# Altium schematic symbol library RL1.SchLib: 87 symbols
Pins are listed as number, name and electrical type; pins without a type are passive.

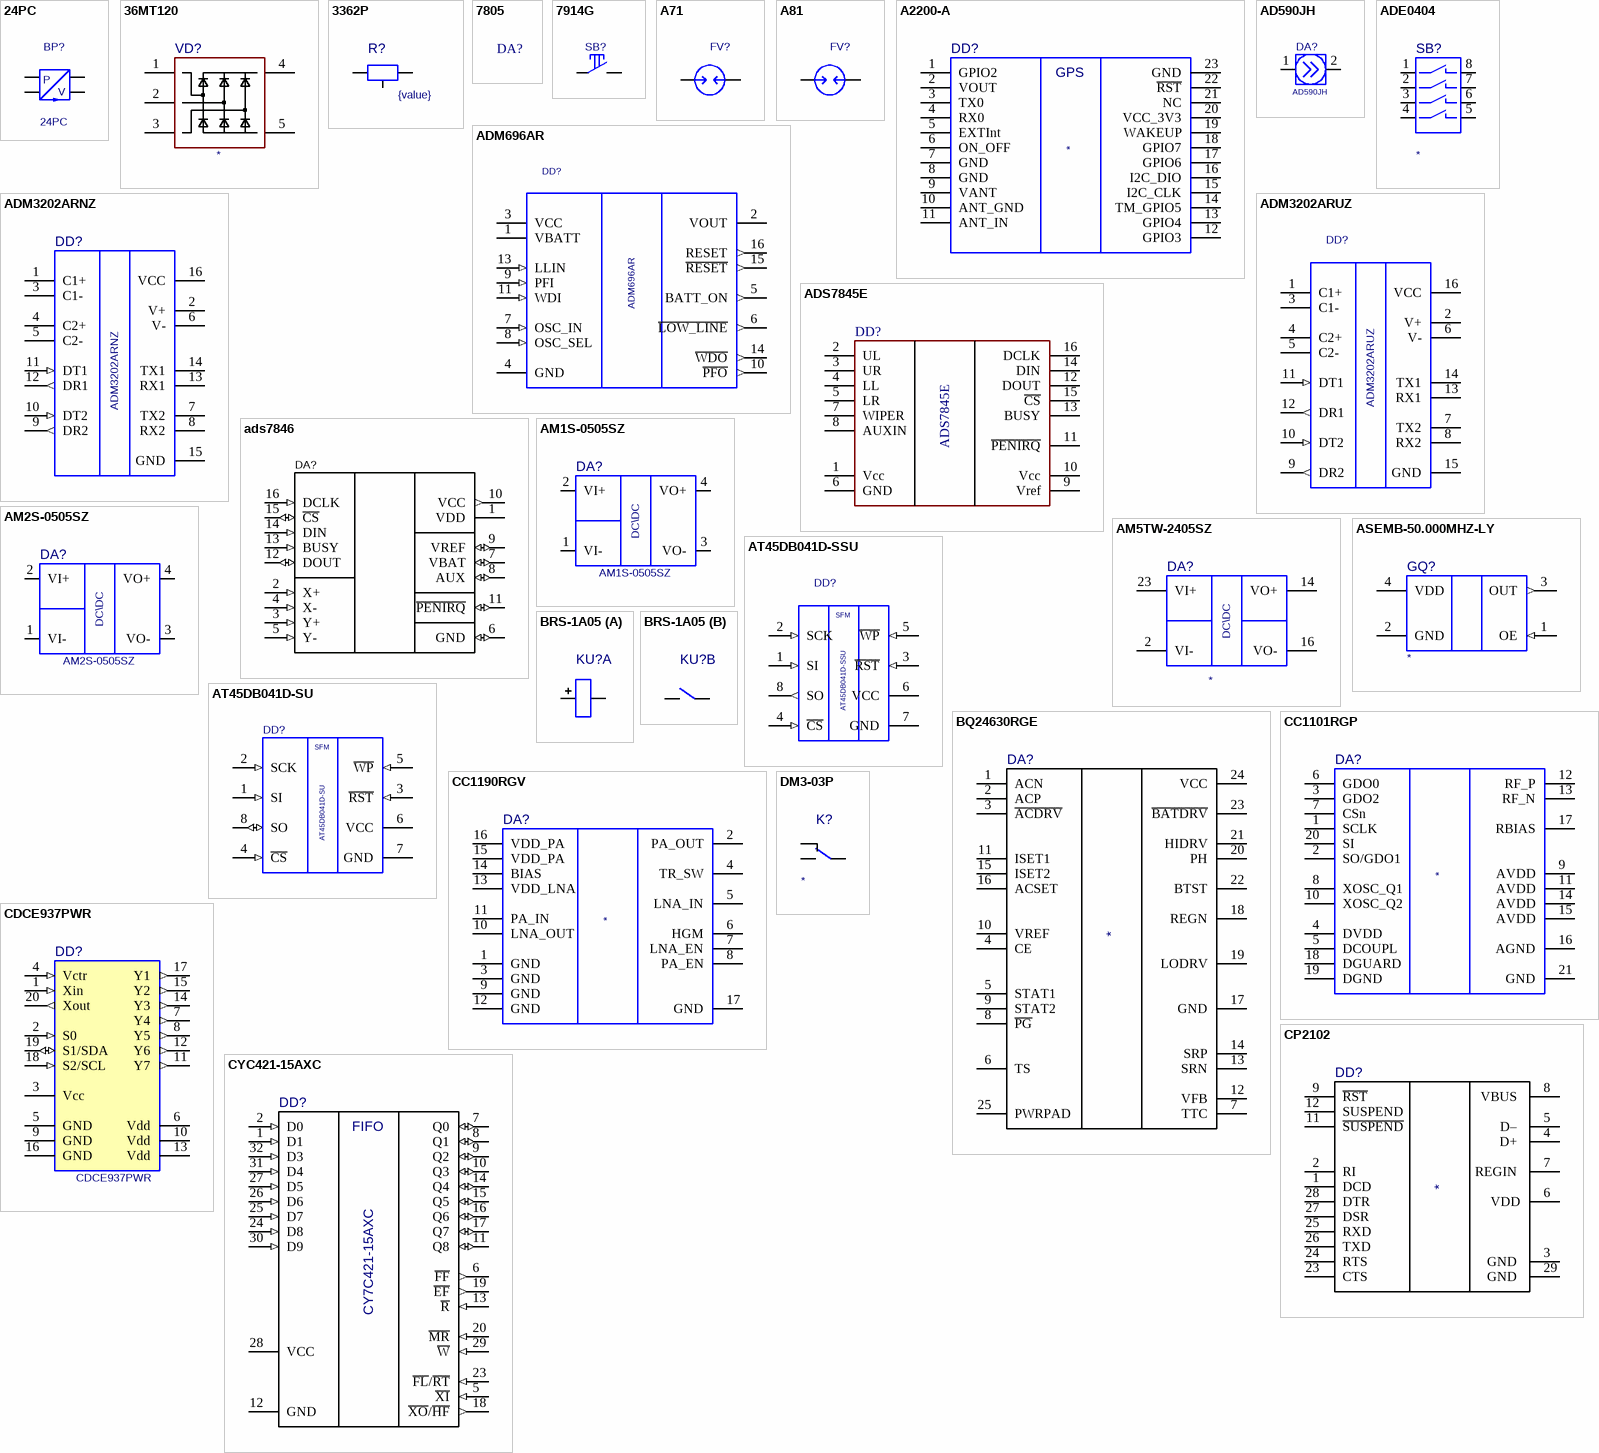
[diagram p0: symbols 24PC to DM3-03P]

## 24PC
designator BP?
Value: *
footprint 24PC
pins: 1, 2, 3, 4
text: P; V

## 36MT120
designator VD?
footprint D-63
pins: 1, 2, 3, 4, 5

## 3362P
designator R?  value {value}  (hidden comment: *)
footprint 3362P
pins: 1, 2, 3

## 7805
designator DA?  (value not drawn)
7805; Value: *
footprint TO-220AB_Primary
footprint TO-220AB_TO-200AB-R
footprint TO-220AB_TO-200AB-R1
footprint TO-220AB_TO-220AB-1
footprint TO-220AB_TO-220AB-2

## 7914G
designator SB?  (value not drawn)
7914G; Value: *
footprint 7914G
pins: 1, 2, 3 hidden, 4 hidden

## A71
designator FV?  (value not drawn)
Value: {Value}
footprint A71_+1
footprint A71_+2
footprint A71_+3
footprint A71_+4
footprint A71_+5
footprint A71_Primary
footprint A71_v
pins: 1, 2

## A81
designator FV?  (value not drawn)
Value: {Value}
footprint A81
pins: 1, 2

## A2200-A
designator DD?
footprint A2200-A
pins: 1 GPIO2, 2 VOUT, 3 TX0, 4 RX0, 5 EXTInt, 6 ON_OFF, 7 GND, 8 GND, 9 VANT, 10 ANT_GND, 11 ANT_IN, 12 GPIO3, 13 GPIO4, 14 TM_GPIO5, 15 I2C_CLK, 16 I2C_DIO, 17 GPIO6, 18 GPIO7, 19 WAKEUP, 20 VCC_3V3, 21 NC, 22 ~{RST}, 23 GND
text: GPS

## AD590JH
designator DA?
Value: *
footprint TO-52
pins: 1 +, 2 -

## ADE0404
designator SB?
footprint DIP_SWITCH4
pins: 1 S3_1, 2 S3_2, 3 S1_1, 4 S2_1, 5 S4_1, 6 S4_2, 7 S2_2, 8 S1_2

## ADM696AR
designator DD?
Value: *
footprint SO16
pins: 1 VBATT (power), 2 VOUT (power), 3 VCC (power), 4 GND (power), 5 BATT_ON (out), 6 ~{LOW_LINE} (out), 7 OSC_IN (in), 8 OSC_SEL (in), 9 PFI (in), 10 ~{PFO} (out), 11 WDI (in), 12 hidden, 13 LLIN (in), 14 ~{WDO} (out), 15 ~{RESET} (out), 16 RESET (out)

## ADM3202ARNZ
designator DD?
Value: *
footprint SOIC16
pins: 1 C1+, 2 V+, 3 C1-, 4 C2+, 5 C2-, 6 V-, 7 TX2, 8 RX2, 9 DR2 (out), 10 DT2 (in), 11 DT1 (in), 12 DR1 (out), 13 RX1, 14 TX1, 15 GND (power), 16 VCC (power)

## ADM3202ARUZ
designator DD?
Value: *
footprint TSSOP16 (JEDEC MO-153)
pins: 1 C1+, 2 V+, 3 C1-, 4 C2+, 5 C2-, 6 V-, 7 TX2, 8 RX2, 9 DR2 (out), 10 DT2 (in), 11 DT1 (in), 12 DR1 (out), 13 RX1, 14 TX1, 15 GND (power), 16 VCC (power)

## ADS7845E
designator DD?
TOUCH SCREEN CONTROLLER
footprint SSOP16 (JEDEC MO-137)
pins: 1 Vcc, 2 UL, 3 UR, 4 LL, 5 LR, 6 GND, 7 WIPER, 8 AUXIN, 9 Vref, 10 Vcc, 11 ~{PENIRQ}, 12 DOUT, 13 BUSY, 14 DIN, 15 ~{CS}, 16 DCLK

## ads7846
designator DA?  (value not drawn)
TOUCH SCREEN CONTROLLER
footprint TSSOP16 (JEDEC MO-153)
pins: 1 VDD (power), 2 X+ (in), 3 Y+ (in), 4 X- (in), 5 Y- (in), 6 GND (io), 7 VBAT (io), 8 AUX (io), 9 VREF (io), 10 VCC (out), 11 ~{PENIRQ} (io), 12 DOUT (io), 13 BUSY (in), 14 DIN (in), 15 ~{CS} (io), 16 DCLK (in)

## AM1S-0505SZ
designator DA?
Value: *
footprint DC-DC SIP4
pins: 1 VI-, 2 VI+, 3 VO- (power), 4 VO+ (power)
text: DC\DC

## AM2S-0505SZ
designator DA?
Value: *
footprint DC-DC SIP4 2W
pins: 1 VI-, 2 VI+, 3 VO- (power), 4 VO+ (power)
text: DC\DC

## AM5TW-2405SZ
designator DA?
AM5TW-2405SZ; Value: *
footprint DC-DC DIP24_AM5TW-2405SZ(Primary)
pins: 2 VI-, 14 VO+, 16 VO-, 23 VI+
text: DC\DC

## ASEMB-50.000MHZ-LY
designator GQ?
footprint QUARTZ-3.2mm-2.5mm
signal-integrity model ASEMB (ASEMB Quartz oscillator)
pins: 1 OE (in), 2 GND (power), 3 OUT (out), 4 VDD (power)

## AT45DB041D-SSU
designator DD?
Value: *
footprint SOIC8 JEDEC
pins: 1 SI (in), 2 SCK (in), 3 ~{RST} (in), 4 ~{CS} (in), 5 ~{WP} (in), 6 VCC (power), 7 GND (power), 8 SO (out)
text: SFM

## AT45DB041D-SU
designator DD?
Value: *
footprint SOIC8 EIAJ
signal-integrity model AT45DB041D_si (Model Description)
pins: 1 SI (in), 2 SCK (in), 3 ~{RST} (in), 4 ~{CS} (in), 5 ~{WP} (in), 6 VCC (power), 7 GND (power), 8 SO (io)
text: SFM

## BQ24630RGE
designator DA?
footprint QFN24 (BQ24630)
pins: 1 ACN, 2 ACP, 3 ~{ACDRV}, 4 CE, 5 STAT1, 6 TS, 7 TTC, 8 ~{PG}, 9 STAT2, 10 VREF, 11 ISET1, 12 VFB, 13 SRN, 14 SRP, 15 ISET2, 16 ACSET, 17 GND, 18 REGN, 19 LODRV, 20 PH, 21 HIDRV, 22 BTST, 23 ~{BATDRV}, 24 VCC, 25 PWRPAD

## BRS-1A05
designator KU?  (value not drawn)
BRS-1A05; Value: *
footprint BRS-1A
part A pins: 3, 5
part B pins: 1, 7

## CC1101RGP
designator DA?
footprint QFN20_4_4 (CC1101)
pins: 1 SCLK, 2 SO/GDO1, 3 GDO2, 4 DVDD, 5 DCOUPL, 6 GDO0, 7 CSn, 8 XOSC_Q1, 9 AVDD, 10 XOSC_Q2, 11 AVDD, 12 RF_P, 13 RF_N, 14 AVDD, 15 AVDD, 16 AGND, 17 RBIAS, 18 DGUARD, 19 DGND, 20 SI, 21 GND

## CC1190RGV
designator DA?
footprint QFN16_4_4 (CC1190)
pins: 1 GND, 2 PA_OUT, 3 GND, 4 TR_SW, 5 LNA_IN, 6 HGM, 7 LNA_EN, 8 PA_EN, 9 GND, 10 LNA_OUT, 11 PA_IN, 12 GND, 13 VDD_LNA, 14 BIAS, 15 VDD_PA, 16 VDD_PA, 17 GND

## CDCE937PWR
designator DD?
Flexible Low Power LVCMOS Clock Generator With SSC Support For EMI Reduction
footprint TSSOP20 (JEDEC MO-153)
signal-integrity model CDCE937
pins: 1 Xin (in), 2 S0 (in), 3 Vcc (power), 4 Vctr (in), 5 GND (power), 6 Vdd (power), 7 Y4 (out), 8 Y5 (out), 9 GND (power), 10 Vdd (power), 11 Y7 (out), 12 Y6 (out), 13 Vdd (power), 14 Y3 (out), 15 Y2 (out), 16 GND (power), 17 Y1 (out), 18 S2/SCL (in), 19 S1/SDA (io), 20 Xout (out)

## CP2102
designator DD?
SINGLE-CHIP USB- TO-UART B RIDGE
footprint QFN-28
pins: 1 DCD , 2 RI , 3 GND , 4 D+ , 5 D– , 6 VDD, 7 REGIN , 8 VBUS , 9 ~{RST} , 10 NC  hidden, 11 ~{SUSPEND}, 12 SUSPEND , 13 NC  hidden, 14 NC  hidden, 15 NC  hidden, 16 NC  hidden, 17 NC  hidden, 18 NC  hidden, 19 NC  hidden, 20 NC  hidden, 21 NC  hidden, 22 NC  hidden, 23 CTS , 24 RTS , 25 RXD , 26 TXD , 27 DSR , 28 DTR , 29 GND 

## CYC421-15AXC
designator DD?, comment CY7C421-15AXC
FIFO, 512X9, 15ns, Asynchronous PQFP32
footprint TQFP32(51-85063)
signal-integrity model Model Name (Model Description)
pins: 1 D1 (in), 2 D0 (in), 5 ~{XI} (in), 6 ~{FF} (out), 7 Q0 (io), 8 Q1 (io), 9 Q2 (io), 10 Q3 (io), 11 Q8 (io), 12 GND (power), 13 ~{R} (in), 14 Q4 (io), 15 Q5 (io), 16 Q6 (io), 17 Q7 (io), 18 ~{XO}/~{HF} (out), 19 ~{EF} (out), 20 ~{MR} (in), 23 ~{FL}/~{RT} (in), 24 D8 (in), 25 D7 (in), 26 D6 (in), 27 D5 (in), 28 VCC (power), 29 ~{W} (in), 30 D9 (in), 31 D4 (in), 32 D3 (in)
text: FIFO

## DM3-03P
designator K?
footprint DM3-03P
pins: 1, 2, 3

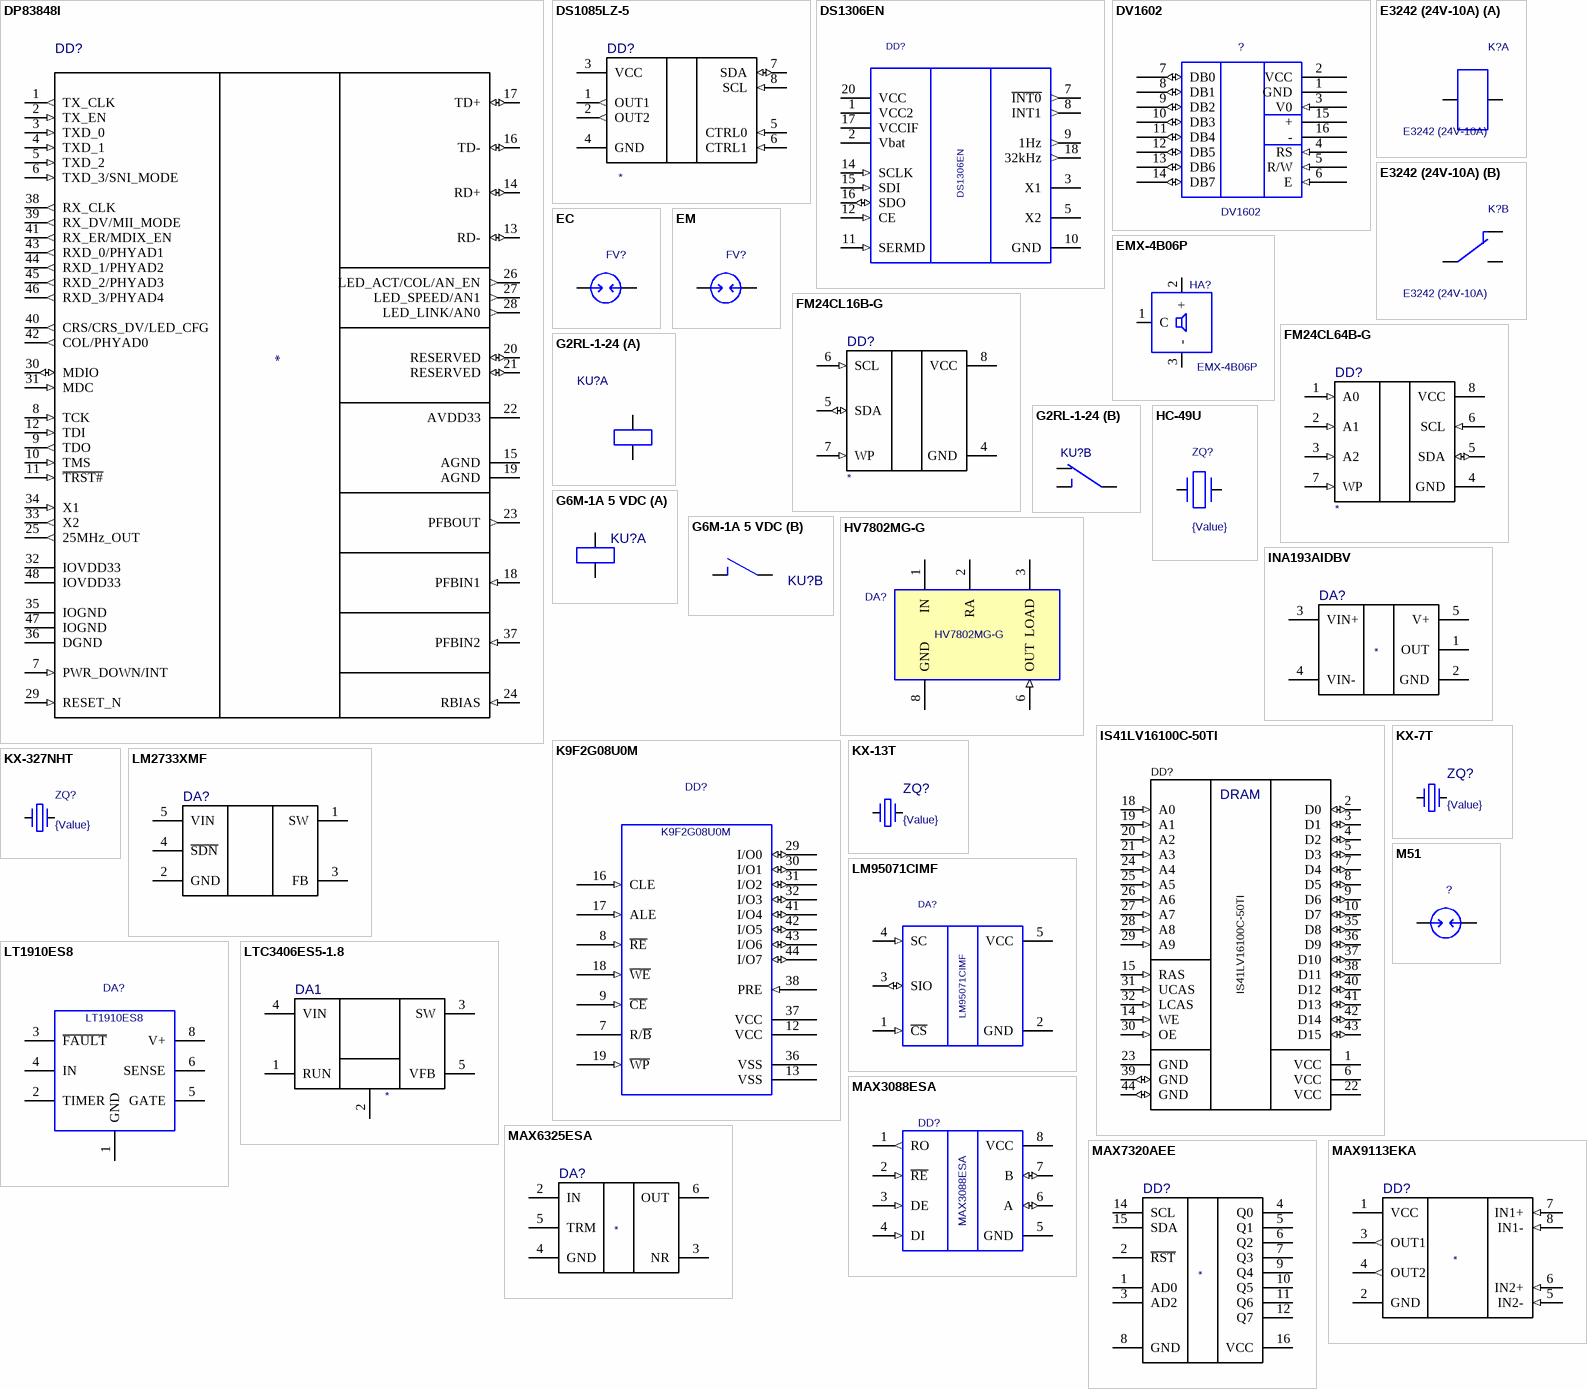
[diagram p1: symbols DP83848I to MAX9113EKA]

## DP83848I
designator DD?
footprint LQFP48_VBH48A
pins: 1 TX_CLK (out), 2 TX_EN (in), 3 TXD_0 (in), 4 TXD_1 (in), 5 TXD_2 (in), 6 TXD_3/SNI_MODE (in), 7 PWR_DOWN/INT (in), 8 TCK (in), 9 TDO (out), 10 TMS (in), 11 ~{TRST#} (in), 12 TDI (in), 13 RD- (io), 14 RD+ (io), 15 AGND (power), 16 TD- (io), 17 TD+ (io), 18 PFBIN1 (in), 19 AGND (power), 20 RESERVED (io), 21 RESERVED (io), 22 AVDD33 (power), 23 PFBOUT (out), 24 RBIAS (in), 25 25MHz_OUT (out), 26 LED_ACT/COL/AN_EN (out), 27 LED_SPEED/AN1 (out), 28 LED_LINK/AN0 (out), 29 RESET_N (in), 30 MDIO (io), 31 MDC (in), 32 IOVDD33 (power), 33 X2 (out), 34 X1 (in), 35 IOGND (power), 36 DGND (power), 37 PFBIN2 (in), 38 RX_CLK (out), 39 RX_DV/MII_MODE (out), 40 CRS/CRS_DV/LED_CFG (out), 41 RX_ER/MDIX_EN (out), 42 COL/PHYAD0 (out), 43 RXD_0/PHYAD1 (out), 44 RXD_1/PHYAD2 (out), 45 RXD_2/PHYAD3 (out), 46 RXD_3/PHYAD4 (out), 47 IOGND (power), 48 IOVDD33 (power)

## DS1085LZ-5
designator DD?
3.3V EconOscillator Frequency Synthesizer
footprint SOIC8 JEDEC
signal-integrity model Model Name (Model Description)
pins: 1 OUT1 (out), 2 OUT2 (out), 3 VCC (power), 4 GND (power), 5 CTRL0 (in), 6 CTRL1 (in), 7 SDA (io), 8 SCL (in)

## DS1306EN
designator DD?
Serial Alarm Real Time Clock (RTC); Value: *
footprint TSSOP20 (JEDEC MO-153)
signal-integrity model ds1306en_si (Model Description)
pins: 1 VCC2 (power), 2 Vbat (power), 3 X1, 4 hidden, 5 X2, 6 hidden, 7 ~{INT0} (out), 8 INT1 (out), 9 1Hz (out), 10 GND (power), 11 SERMD (in), 12 CE (in), 13 hidden, 14 SCLK (in), 15 SDI (in), 16 SDO (io), 17 VCCIF (power), 18 32kHz (out), 19 hidden, 20 VCC (power)

## DV1602
designator ?
Value: *
footprint KS0066U_SIP
pins: 1 GND (power), 2 VCC (power), 3 V0 (in), 4 RS (in), 5 R/W (in), 6 E (in), 7 DB0 (io), 8 DB1 (io), 9 DB2 (io), 10 DB3 (io), 11 DB4 (io), 12 DB5 (io), 13 DB6 (io), 14 DB7 (io), 15 +, 16 -

## E3242 (24V-10A)
designator K?
Value: *
footprint E3242
part A pins: 1 COIL+, 2 COIL-
part B pins: 3 NC, 4 COM, 5 NO

## EC
designator FV?  (value not drawn)
Value: {Value}
footprint EC
pins: 1, 2

## EM
designator FV?  (value not drawn)
Value: {Value}
footprint EM
pins: 1, 2

## EMX-4B06P
designator HA?
Value: *
footprint EMX-4B06P
pins: 1 C, 2 +, 3 -

## FM24CL16B-G
designator DD?
16-Kbit (2K × 8) Serial (I2C) F-RAM
footprint SOIC8 JEDEC
signal-integrity model Model Name (Model Description)
pins: 4 GND (power), 5 SDA (io), 6 SCL (in), 7 WP (in), 8 VCC (power)

## FM24CL64B-G
designator DD?
64-Kbit (8 K × 8) Serial (I2C) Automotive F-RAM
footprint SOIC8 JEDEC
signal-integrity model Model Name (Model Description)
pins: 1 A0 (in), 2 A1 (in), 3 A2 (in), 4 GND (power), 5 SDA (io), 6 SCL (in), 7 WP (in), 8 VCC (power)

## G2RL-1-24
designator KU?  (value not drawn)
G2RL-1-24; Value: *
footprint G2RL-1-24
part A pins: 1 Uin1, 5 Uin2
part B pins: 2 NC, 3 NO, 4 COM

## G6M-1A 5 VDC
designator KU?  (value not drawn)
G6M-1A 5 VDC; Value: *
footprint G6M-1A 5 VDC
part A pins: 1, 2
part B pins: 3, 4

## HC-49U
designator ZQ?  value {Value}  (hidden comment: *)
HC-49U
footprint HC-49U_1
footprint HC-49U_Primary
pins: 1, 2

## HV7802MG-G
designator DA?
High-Side Current Monitor 8V to 450V Configurable Output; Value: *
footprint MSOP8
pins: 1 IN (power), 2 RA (power), 3 LOAD (power), 6 OUT (in), 8 GND (power)

## INA193AIDBV
designator DA?
footprint SOT23-5
pins: 1 OUT, 2 GND, 3 VIN+, 4 VIN-, 5 V+

## IS41LV16100C-50TI
designator DD?
footprint TSOP2-44/50
signal-integrity model Model Name (Model Description)
pins: 1 VCC (power), 2 D0 (io), 3 D1 (io), 4 D2 (io), 5 D3 (io), 6 VCC (power), 7 D4 (io), 8 D5 (io), 9 D6 (io), 10 D7 (io), 14 WE (in), 15 RAS (in), 18 A0 (in), 19 A1 (in), 20 A2 (in), 21 A3 (in), 22 VCC (power), 23 GND (power), 24 A4 (in), 25 A5 (in), 26 A6 (in), 27 A7 (in), 28 A8 (in), 29 A9 (in), 30 OE (in), 31 UCAS (in), 32 LCAS (in), 35 D8 (io), 36 D9 (io), 37 D10 (io), 38 D11 (io), 39 GND (io), 40 D12 (io), 41 D13 (io), 42 D14 (io), 43 D15 (io), 44 GND (io)
text: DRAM

## K9F2G08U0M
designator DD?
Value: *
footprint TSSO12X20-G48/P.5
pins: 1 hidden, 2 hidden, 3 hidden, 4 hidden, 5 hidden, 6 hidden, 7 R/~{B} (oe), 8 ~{RE} (in), 9 ~{CE} (in), 10 hidden, 11 hidden, 12 VCC (power), 13 VSS (power), 14 hidden, 15 hidden, 16 CLE (in), 17 ALE (in), 18 ~{WE} (in), 19 ~{WP} (in), 20 hidden, 21 hidden, 22 hidden, 23 hidden, 24 hidden, 25 hidden, 26 hidden, 27 hidden, 28 hidden, 29 I/O0 (io), 30 I/O1 (io), 31 I/O2 (io), 32 I/O3 (io), 33 hidden, 34 hidden, 35 hidden, 36 VSS (power), 37 VCC (power), 38 PRE (in), 39 hidden, 40 hidden, 41 I/O4 (io), 42 I/O5 (io), 43 I/O6 (io), 44 I/O7 (io), 45 hidden, 46 hidden, 47 hidden, 48 hidden

## KX-7T
designator ZQ?  value {Value}  (hidden comment: *)
KX-7T
footprint KX-7
pins: 1, 2 hidden, 3, 4 hidden

## KX-13T
designator ZQ?  value {Value}  (hidden comment: *)
KX-13T
footprint KX-13
pins: 1, 2 hidden, 3, 4 hidden

## KX-327NHT
designator ZQ?  value {Value}  (hidden comment: *)
KX-327NHT
footprint R1206
pins: 1, 2

## LM2733XMF
designator DA?
0.6- and 1.6-MHz Boost Converters With 40-V Internal FET Switch in SOT-23
footprint SOT23-5
pins: 1 SW, 2 GND, 3 FB, 4 ~{SDN}, 5 VIN

## LM95071CIMF
designator DA?
SPI/MICROWIRE 13-Bit Plus Sign Temperature Sensor; Value: *
footprint SOT23-5
signal-integrity model LM95071_si (Model Description)
pins: 1 ~{CS} (in), 2 GND (power), 3 SIO (io), 4 SC (in), 5 VCC (power)

## LT1910ES8
designator DA?
Protected High Side MOSFET Driver; Value: *
footprint SOIC8 JEDEC
pins: 1 GND, 2 TIMER, 3 ~{FAULT}, 4 IN, 5 GATE, 6 SENSE, 7 hidden, 8 V+

## LTC3406ES5-1.8
designator DA1
1.5MHz, 600mA Synchronous Step-Down Regulator in ThinSOT
footprint SOT23-5
pins: 1 RUN, 2 GND, 3 SW, 4 VIN, 5 VFB

## M51
designator ?  (value not drawn)
Value: {Value}
footprint M51
pins: 1, 2

## MAX3088ESA
designator DD?
±15kV ESD-Protected, Fail-Safe, High-Speed (10Mbps), Slew-Rate-Limited RS-485/RS-422 Transceivers; Value: *
footprint SOIC8 JEDEC
pins: 1 RO (out), 2 ~{RE} (in), 3 DE (in), 4 DI (in), 5 GND (power), 6 A (io), 7 B (io), 8 VCC (power)

## MAX6325ESA
designator DA?
1ppm/°C, Low-Noise, +2.5V/+4.096V/+5V Voltage References
footprint SOIC8 JEDEC
pins: 2 IN, 3 NR, 4 GND, 5 TRM, 6 OUT

## MAX7320AEE
designator DD?
I2C Port Expander with Eight Push-Pull Outputs
footprint SSOP16 (JEDEC MO-137)
pins: 1 AD0, 2 ~{RST}, 3 AD2, 4 Q0, 5 Q1, 6 Q2, 7 Q3, 8 GND, 9 Q4, 10 Q5, 11 Q6, 12 Q7, 14 SCL, 15 SDA, 16 VCC

## MAX9113EKA
designator DD?
Single/Dual LVDS Line Receivers with Ultra-Low Pulse Skew in SOT23
footprint SOT23-8
signal-integrity model Model Name (Model Description)
pins: 1 VCC (power), 2 GND (power), 3 OUT1 (out), 4 OUT2 (out), 5 IN2- (in), 6 IN2+ (in), 7 IN1+ (in), 8 IN1- (in)

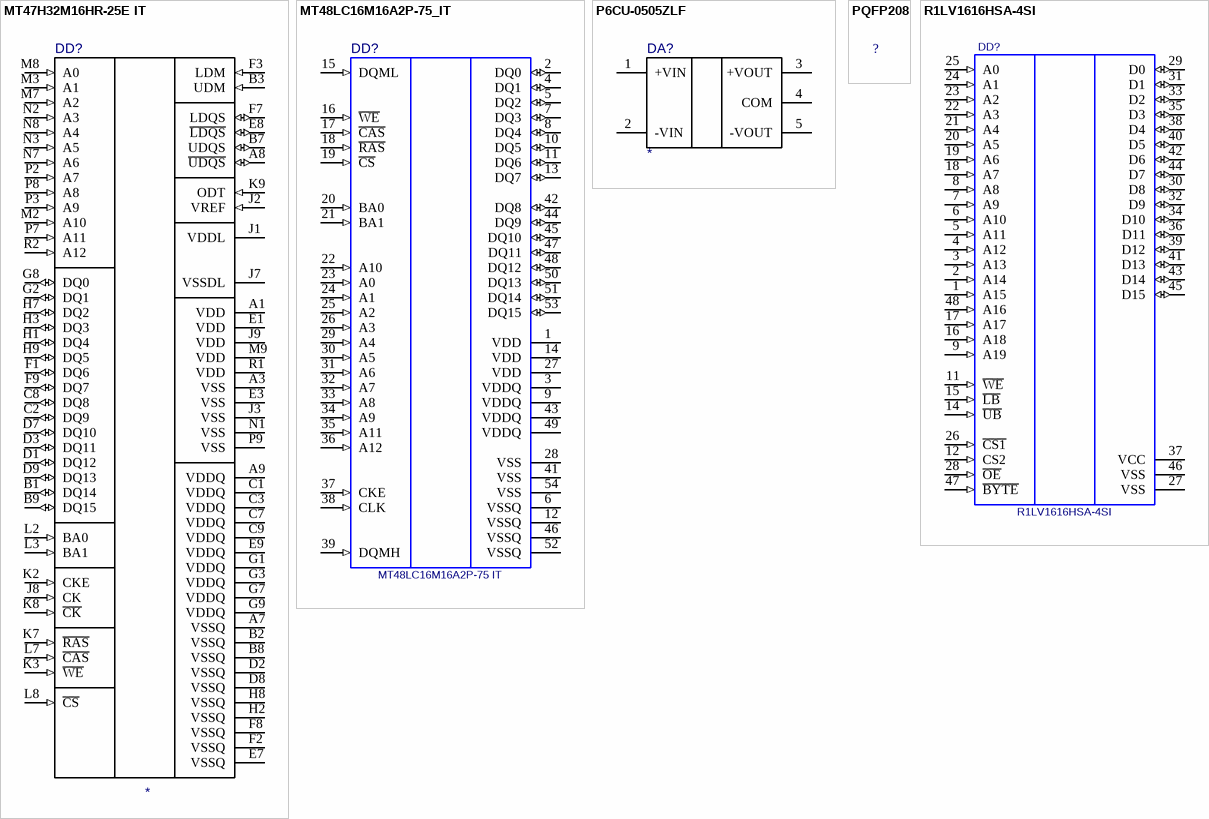
[diagram p2: symbols MT47H32M16HR-25E IT to R1LV1616HSA-4SI]

## MT47H32M16HR-25E IT
designator DD?
DDR2 SDRAM – 8 Meg x 16 x 4 banks
footprint FBGA-84
signal-integrity model MT47H32M16HR
pins: A1 VDD (power), A3 VSS (power), A7 VSSQ (power), A8 ~{UDQS} (io), A9 VDDQ (power), B1 DQ14 (io), B2 VSSQ (power), B3 UDM (in), B7 UDQS (io), B8 VSSQ (power), B9 DQ15 (io), C1 VDDQ (power), C2 DQ9 (io), C3 VDDQ (power), C7 VDDQ (power), C8 DQ8 (io), C9 VDDQ (power), D1 DQ12 (io), D2 VSSQ (power), D3 DQ11 (io), D7 DQ10 (io), D8 VSSQ (power), D9 DQ13 (io), E1 VDD (power), E3 VSS (power), E7 VSSQ (power), E8 ~{LDQS} (io), E9 VDDQ (power), F1 DQ6 (io), F2 VSSQ (power), F3 LDM (in), F7 LDQS (io), F8 VSSQ (power), F9 DQ7 (io), G1 VDDQ (power), G2 DQ1 (io), G3 VDDQ (power), G7 VDDQ (power), G8 DQ0 (io), G9 VDDQ (power), H1 DQ4 (io), H2 VSSQ (power), H3 DQ3 (io), H7 DQ2 (io), H8 VSSQ (power), H9 DQ5 (io), J1 VDDL (power), J2 VREF (in), J3 VSS (power), J7 VSSDL (power), J8 CK (in), J9 VDD (power), K2 CKE (in), K3 ~{WE} (in), K7 ~{RAS} (in), K8 ~{CK} (in), K9 ODT (in), L2 BA0 (in), L3 BA1 (in), L7 ~{CAS} (in), L8 ~{CS} (in), M2 A10 (in), M3 A1 (in), M7 A2 (in), M8 A0 (in), M9 VDD (power), N1 VSS (power), N2 A3 (in), N3 A5 (in), N7 A6 (in), N8 A4 (in), P2 A7 (in), P3 A9 (in), P7 A11 (in), P8 A8 (in), P9 VSS, R1 VDD (power), R2 A12 (in)

## MT48LC16M16A2P-75_IT
designator DD?, comment MT48LC16M16A2P-75 IT
SDR SDRAM – 4 Meg x 16 x 4 banks; RowAddress: 8K (A0-A12); ColumnAddress: 512 (A0-A8); ComponentLink2DescA4: Datasheet; CycleTime: 7.5ns @ CL = 3 (PC133); ComponentLink1DescBC: Manufacturer Link; Published: 11-Oct-2004; PackageDocument: Sep-2003; PackageReference: TSOP2-54; Publisher: Altium Limited; Code_JEDEC: MS-024-FA; DatasheetDocument: rev.G, Sep-2003; ComponentLink1URL: http://www.micron.com; ComponentLink2URL: http://download.micron.com/pdf/datasheets/dram/sdram/256MSDRAM.pdf; Value: *
footprint TSOP2-54 (Footprint not found)
signal-integrity model MT48LC16M16A2TG IBIS (Model Description)
pins: 1 VDD (power), 2 DQ0 (io), 3 VDDQ (power), 4 DQ1 (io), 5 DQ2 (io), 6 VSSQ (power), 7 DQ3 (io), 8 DQ4 (io), 9 VDDQ (power), 10 DQ5 (io), 11 DQ6 (io), 12 VSSQ (power), 13 DQ7 (io), 14 VDD (power), 15 DQML (in), 16 ~{WE} (in), 17 ~{CAS} (in), 18 ~{RAS} (in), 19 ~{CS} (in), 20 BA0 (in), 21 BA1 (in), 22 A10 (in), 23 A0 (in), 24 A1 (in), 25 A2 (in), 26 A3 (in), 27 VDD (power), 28 VSS (power), 29 A4 (in), 30 A5 (in), 31 A6 (in), 32 A7 (in), 33 A8 (in), 34 A9 (in), 35 A11 (in), 36 A12 (in), 37 CKE (in), 38 CLK (in), 39 DQMH (in), 41 VSS (power), 42 DQ8 (io), 43 VDDQ (power), 44 DQ9 (io), 45 DQ10 (io), 46 VSSQ (power), 47 DQ11 (io), 48 DQ12 (io), 49 VDDQ (power), 50 DQ13 (io), 51 DQ14 (io), 52 VSSQ (power), 53 DQ15 (io), 54 VSS (power)

## P6CU-0505ZLF
designator DA?
footprint DC-DC SIP7
pins: 1 +VIN, 2 -VIN, 3 +VOUT, 4 COM, 5 -VOUT, 6 hidden

## PQFP208
designator ?  (value not drawn)
PQFP208; Value: *
footprint PQFP208
pins: 1 hidden, 2 hidden, 3 hidden, 4 hidden, 5 hidden, 6 hidden, 7 hidden, 8 hidden, 9 hidden, 10 hidden, 11 hidden, 12 hidden, 13 hidden, 14 hidden, 15 hidden, 16 hidden, 17 hidden, 18 hidden, 19 hidden, 20 hidden, 21 hidden, 22 hidden, 23 hidden, 24 hidden, 25 hidden, 26 hidden, 27 hidden, 28 hidden, 29 hidden, 30 hidden, 31 hidden, 32 hidden, 33 hidden, 34 hidden, 35 hidden, 36 hidden, 37 hidden, 38 hidden, 39 hidden, 40 hidden, 41 hidden, 42 hidden, 43 hidden, 44 hidden, 45 hidden, 46 hidden, 47 hidden, 48 hidden, 49 hidden, 50 hidden, 51 hidden, 52 hidden, 53 hidden, 54 hidden, 55 hidden, 56 hidden, 57 hidden, 58 hidden, 59 hidden, 60 hidden, 61 hidden, 62 hidden, 63 hidden, 64 hidden, 65 hidden, 66 hidden, 67 hidden, 68 hidden, 69 hidden, 70 hidden, 71 hidden, 72 hidden, 73 hidden, 74 hidden, 75 hidden, 76 hidden, 77 hidden, 78 hidden, 79 hidden, 80 hidden, 81 hidden, 82 hidden, 83 hidden, 84 hidden, 85 hidden, 86 hidden, 87 hidden, 88 hidden, 89 hidden, 90 hidden, 91 hidden, 92 hidden, 93 hidden, 94 hidden, 95 hidden, 96 hidden, 97 hidden, 98 hidden, 99 hidden, 100 hidden, 101 hidden, 102 hidden, 103 hidden, 104 hidden, 105 hidden, 106 hidden, 107 hidden, 108 hidden, 109 hidden, 110 hidden, 111 hidden, 112 hidden, 113 hidden, 114 hidden, 115 hidden, 116 hidden, 117 hidden, 118 hidden, 119 hidden, 120 hidden, 121 hidden, 122 hidden, 123 hidden, 124 hidden, 125 hidden, 126 hidden, 127 hidden, 128 hidden, 129 hidden, 130 hidden, 131 hidden, 132 hidden, 133 hidden, 134 hidden, 135 hidden, 136 hidden, 137 hidden, 138 hidden, 139 hidden, 140 hidden, 141 hidden, 142 hidden, 143 hidden, 144 hidden, 145 hidden, 146 hidden, 147 hidden, 148 hidden, 149 hidden, 150 hidden, 151 hidden, 152 hidden, 153 hidden, 154 hidden, 155 hidden, 156 hidden, 157 hidden, 158 hidden, 159 hidden, 160 hidden, 161 hidden, 162 hidden, 163 hidden, 164 hidden, 165 hidden, 166 hidden, 167 hidden, 168 hidden, 169 hidden, 170 hidden, 171 hidden, 172 hidden, 173 hidden, 174 hidden, 175 hidden, 176 hidden, 177 hidden, 178 hidden, 179 hidden, 180 hidden, 181 hidden, 182 hidden, 183 hidden, 184 hidden, 185 hidden, 186 hidden, 187 hidden, 188 hidden, 189 hidden, 190 hidden, 191 hidden, 192 hidden, 193 hidden, 194 hidden, 195 hidden, 196 hidden, 197 hidden, 198 hidden, 199 hidden, 200 hidden, 201 hidden, 202 hidden, 203 hidden, 204 hidden, 205 hidden, 206 hidden, 207 hidden, 208 hidden

## R1LV1616HSA-4SI
designator DD?
16M SRAM (1-Mword x 16-bit) Wide Temperature Range Version; Value: *
footprint TSSO12X20-G48/P.5
signal-integrity model Model Name (Model Description)
pins: 1 A15 (in), 2 A14 (in), 3 A13 (in), 4 A12 (in), 5 A11 (in), 6 A10 (in), 7 A9 (in), 8 A8 (in), 9 A19 (in), 11 ~{WE} (in), 12 CS2 (in), 14 ~{UB} (in), 15 ~{LB} (in), 16 A18 (in), 17 A17 (in), 18 A7 (in), 19 A6 (in), 20 A5 (in), 21 A4 (in), 22 A3 (in), 23 A2 (in), 24 A1 (in), 25 A0 (in), 26 ~{CS1} (in), 27 VSS (power), 28 ~{OE} (in), 29 D0 (io), 30 D8 (io), 31 D1 (io), 32 D9 (io), 33 D2 (io), 34 D10 (io), 35 D3 (io), 36 D11 (io), 37 VCC (power), 38 D4 (io), 39 D12 (io), 40 D5 (io), 41 D13 (io), 42 D6 (io), 43 D14 (io), 44 D7 (io), 45 D15 (io), 46 VSS (power), 47 ~{BYTE} (in), 48 A16 (in)

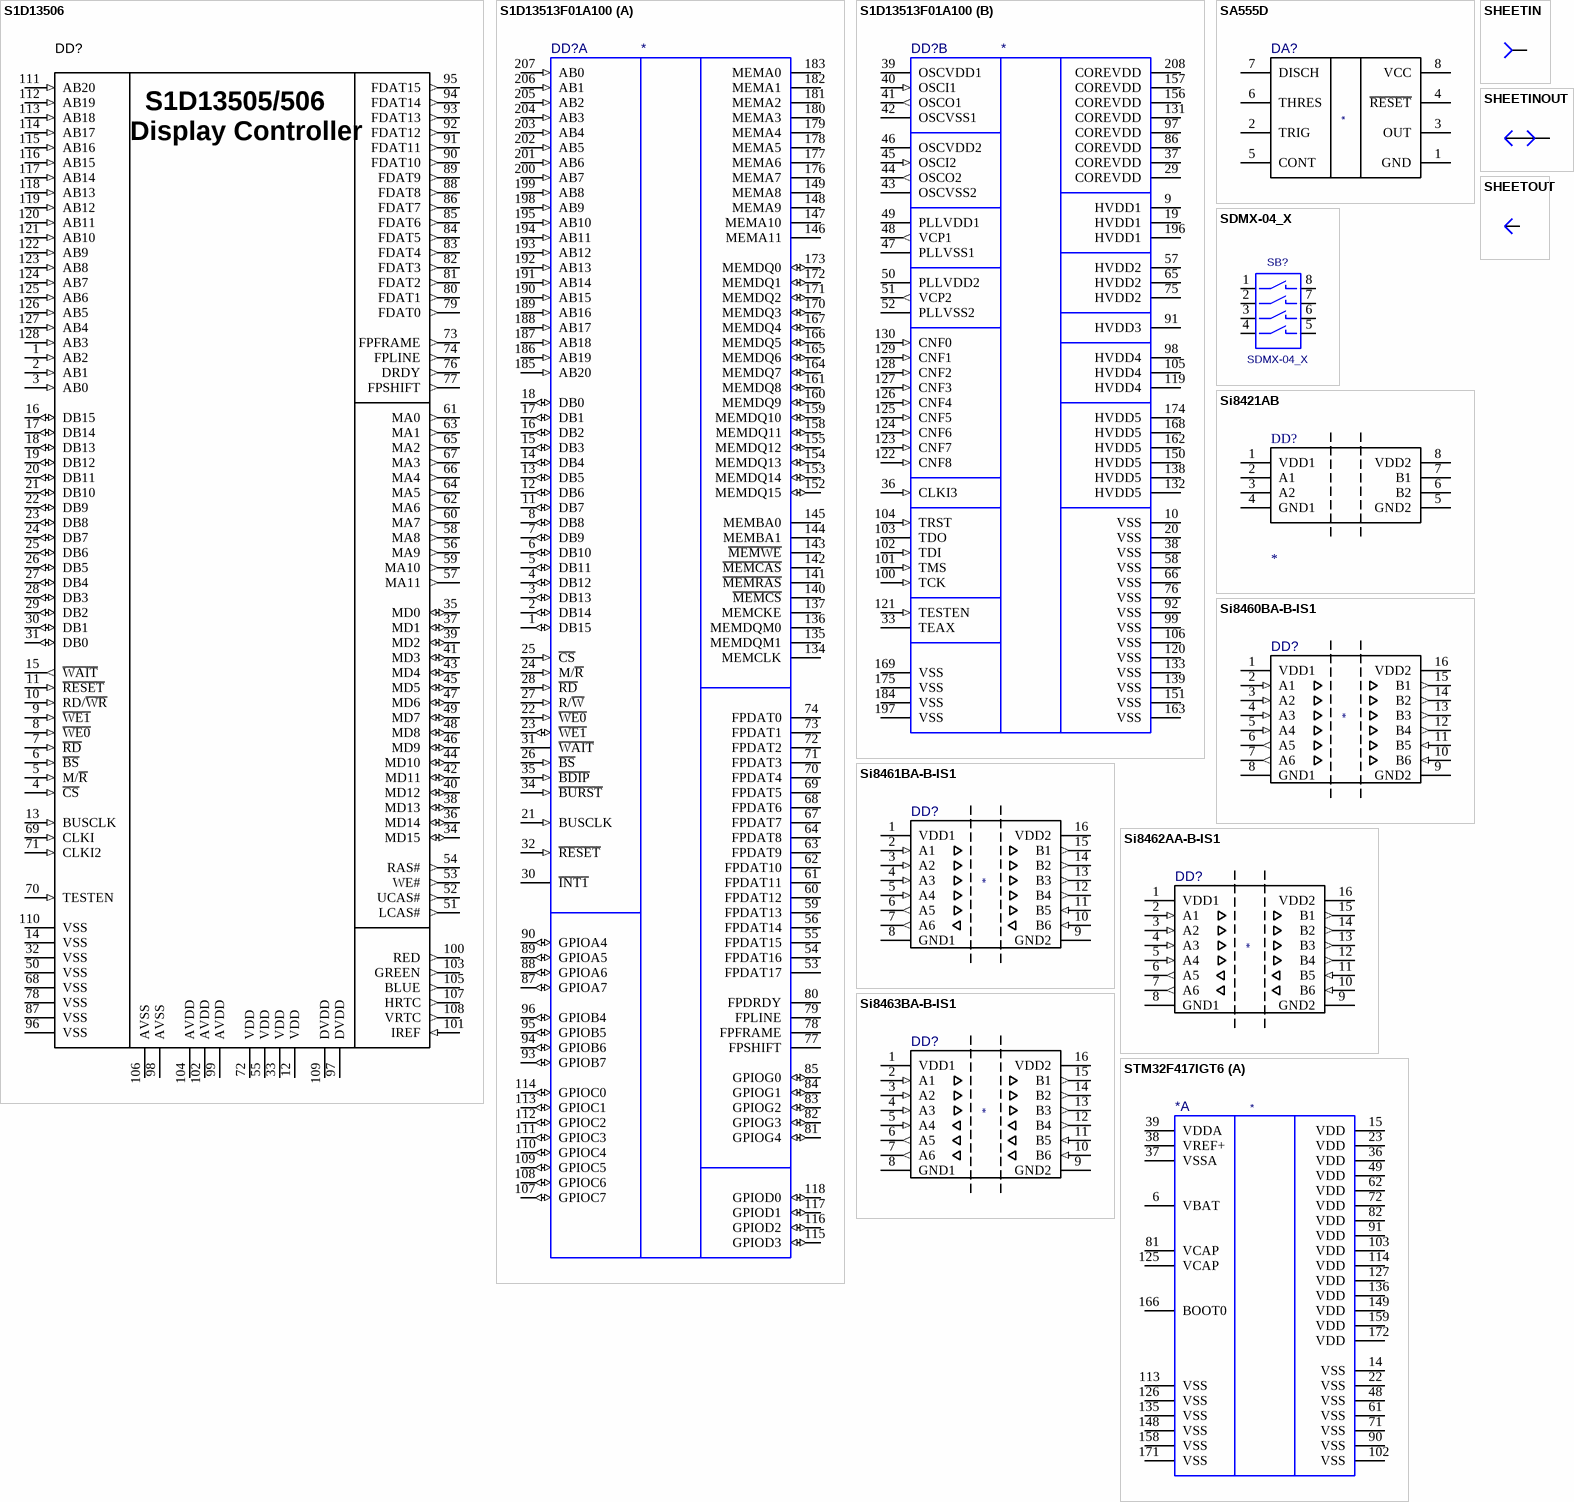
[diagram p3: symbols S1D13506 to STM32F417IGT6]

## S1D13506
designator DD?, comment S1D13806F00A200  (value not drawn)
Embedded Memory Display Controller; FAB: EPSON; TEMP: 0°C а 70°C; BOI: QFP144; DEV: QFP144_07; DESIG: Embedded Memory display controller; REF: S1D13806F00A200; VAL: S1D13806F00A200
footprint F-QFP20x20-G144/N (144-Pin Plastic Quad Flat Pack (TQFP))
footprint QFP144_07
footprint F-QFP14x14-G128/N (QFP; 128 Leads; Body 14 x 14 mm; Pitch 0.4 mm)
signal-integrity model S1D13506 (Model Description)
pins: 1 AB2 (in), 2 AB1 (in), 3 AB0 (in), 4 ~{CS} (in), 5 M/~{R} (in), 6 ~{BS} (in), 7 ~{RD} (in), 8 ~{WE0} (in), 9 ~{WE1} (in), 10 RD/~{WR} (in), 11 ~{RESET} (in), 12 VDD (power), 13 BUSCLK (in), 14 VSS (power), 15 ~{WAIT} (out), 16 DB15 (io), 17 DB14 (io), 18 DB13 (io), 19 DB12 (io), 20 DB11 (io), 21 DB10 (io), 22 DB9 (io), 23 DB8 (io), 24 DB7 (io), 25 DB6 (io), 26 DB5 (io), 27 DB4 (io), 28 DB3 (io), 29 DB2 (io), 30 DB1 (io), 31 DB0 (io), 32 VSS (power), 33 VDD (power), 34 MD15 (io), 35 MD0 (io), 36 MD14 (io), 37 MD1 (io), 38 MD13 (io), 39 MD2 (io), 40 MD12 (io), 41 MD3 (io), 42 MD11 (io), 43 MD4 (io), 44 MD10 (io), 45 MD5 (io), 46 MD9 (io), 47 MD6 (io), 48 MD8 (io), 49 MD7 (io), 50 VSS (power), 51 LCAS# (out), 52 UCAS# (out), 53 WE# (out), 54 RAS# (out), 55 VDD (power), 56 MA9 (out), 57 MA11 (out), 58 MA8 (out), 59 MA10 (out), 60 MA7 (out), 61 MA0 (out), 62 MA6 (out), 63 MA1 (out), 64 MA5 (out), 65 MA2 (out), 66 MA4 (out), 67 MA3 (out), 68 VSS (power), 69 CLKI (in), 70 TESTEN (in), 71 CLKI2 (in), 72 VDD (power), 73 FPFRAME (out), 74 FPLINE (out), 76 DRDY (out), 77 FPSHIFT (out), 78 VSS (power), 79 FDAT0 (out), 80 FDAT1 (out), 81 FDAT2 (out), 82 FDAT3 (out), 83 FDAT4 (out), 84 FDAT5 (out), 85 FDAT6 (out), 86 FDAT7 (out), 87 VSS (power), 88 FDAT8 (out), 89 FDAT9 (out), 90 FDAT10 (out), 91 FDAT11 (out), 92 FDAT12 (out), 93 FDAT13 (out), 94 FDAT14 (out), 95 FDAT15 (out), 96 VSS (power), 97 DVDD (power), 98 AVSS (power), 99 AVDD (power), 100 RED (out), 101 IREF (in), 102 AVDD (power), 103 GREEN (out), 104 AVDD (power), 105 BLUE (out), 106 AVSS (power), 107 HRTC (out), 108 VRTC (out), 109 DVDD (power), 110 VSS (power), 111 AB20 (in), 112 AB19 (in), 113 AB18 (in), 114 AB17 (in), 115 AB16 (in), 116 AB15 (in), 117 AB14 (in), 118 AB13 (in), 119 AB12 (in), 120 AB11 (in), 121 AB10 (in), 122 AB9 (in), 123 AB8 (in), 124 AB7 (in), 125 AB6 (in), 126 AB5 (in), 127 AB4 (in), 128 AB3 (in)
text: S1D13505/506; Display Controller

## S1D13513F01A100
designator DD?
Display Controller
signal-integrity model S1D13513F
footprint QFP22-208
part A pins: 1 DB15 (io), 2 DB14 (io), 3 DB13 (io), 4 DB12 (io), 5 DB11 (io), 6 DB10 (io), 7 DB9 (io), 8 DB8 (io), 11 DB7 (io), 12 DB6 (io), 13 DB5 (io), 14 DB4 (io), 15 DB3 (io), 16 DB2 (io), 17 DB1 (io), 18 DB0 (io), 21 BUSCLK (in), 22 ~{WE0} (in), 23 ~{WE1} (io), 24 M/~{R} (in), 25 ~{CS} (in), 26 ~{BS} (in), 27 R/~{W} (in), 28 ~{RD} (in), 30 ~{INT1} (hiz), 31 ~{WAIT} (hiz), 32 ~{RESET} (in), 34 ~{BURST} (in), 35 ~{BDIP} (in), 53 FPDAT17 (hiz), 54 FPDAT16 (hiz), 55 FPDAT15 (hiz), 56 FPDAT14 (hiz), 59 FPDAT13 (hiz), 60 FPDAT12 (hiz), 61 FPDAT11 (hiz), 62 FPDAT10 (hiz), 63 FPDAT9 (hiz), 64 FPDAT8 (hiz), 67 FPDAT7 (hiz), 68 FPDAT6 (hiz), 69 FPDAT5 (hiz), 70 FPDAT4 (hiz), 71 FPDAT3 (hiz), 72 FPDAT2 (hiz), 73 FPDAT1 (hiz), 74 FPDAT0 (hiz), 77 FPSHIFT (hiz), 78 FPFRAME (hiz), 79 FPLINE (hiz), 80 FPDRDY (hiz), 81 GPIOG4 (io), 82 GPIOG3 (io), 83 GPIOG2 (io), 84 GPIOG1 (io), 85 GPIOG0 (io), 87 GPIOA7 (io), 88 GPIOA6 (io), 89 GPIOA5 (io), 90 GPIOA4 (io), 93 GPIOB7 (io), 94 GPIOB6 (io), 95 GPIOB5 (io), 96 GPIOB4 (io), 107 GPIOC7 (io), 108 GPIOC6 (io), 109 GPIOC5 (io), 110 GPIOC4 (io), 111 GPIOC3 (io), 112 GPIOC2 (io), 113 GPIOC1 (io), 114 GPIOC0 (io), 115 GPIOD3 (io), 116 GPIOD2 (io), 117 GPIOD1 (io), 118 GPIOD0 (io), 134 MEMCLK (hiz), 135 MEMDQM1 (hiz), 136 MEMDQM0 (hiz), 137 MEMCKE (hiz), 140 ~{MEMCS} (hiz), 141 ~{MEMRAS} (hiz), 142 ~{MEMCAS} (hiz), 143 ~{MEMWE} (hiz), 144 MEMBA1 (hiz), 145 MEMBA0 (hiz), 146 MEMA11 (hiz), 147 MEMA10 (hiz), 148 MEMA9 (hiz), 149 MEMA8 (hiz), 152 MEMDQ15 (io), 153 MEMDQ14 (io), 154 MEMDQ13 (io), 155 MEMDQ12 (io), 158 MEMDQ11 (io), 159 MEMDQ10 (io), 160 MEMDQ9 (io), 161 MEMDQ8 (io), 164 MEMDQ7 (io), 165 MEMDQ6 (io), 166 MEMDQ5 (io), 167 MEMDQ4 (io), 170 MEMDQ3 (io), 171 MEMDQ2 (io), 172 MEMDQ1 (io), 173 MEMDQ0 (io), 176 MEMA7 (hiz), 177 MEMA6 (hiz), 178 MEMA5 (hiz), 179 MEMA4 (hiz), 180 MEMA3 (hiz), 181 MEMA2 (hiz), 182 MEMA1 (hiz), 183 MEMA0 (hiz), 185 AB20 (in), 186 AB19 (in), 187 AB18 (in), 188 AB17 (in), 189 AB16 (in), 190 AB15 (in), 191 AB14 (in), 192 AB13 (in), 193 AB12 (in), 194 AB11 (in), 195 AB10 (in), 198 AB9 (in), 199 AB8 (in), 200 AB7 (in), 201 AB6 (in), 202 AB5 (in), 203 AB4 (in), 204 AB3 (in), 205 AB2 (in), 206 AB1 (in), 207 AB0 (in)
part B pins: 9 HVDD1 (power), 10 VSS (power), 19 HVDD1 (power), 20 VSS (power), 29 COREVDD (power), 33 TEAX (hiz), 36 CLKI3 (in), 37 COREVDD (power), 38 VSS (power), 39 OSCVDD1 (power), 40 OSCI1 (in), 41 OSCO1 (out), 42 OSCVSS1 (power), 43 OSCVSS2 (power), 44 OSCO2 (out), 45 OSCI2 (in), 46 OSCVDD2 (power), 47 PLLVSS1 (power), 48 VCP1 (out), 49 PLLVDD1 (power), 50 PLLVDD2 (power), 51 VCP2 (out), 52 PLLVSS2 (power), 57 HVDD2 (power), 58 VSS (power), 65 HVDD2 (power), 66 VSS (power), 75 HVDD2 (power), 76 VSS (power), 86 COREVDD (power), 91 HVDD3 (power), 92 VSS (power), 97 COREVDD (power), 98 HVDD4 (power), 99 VSS (power), 100 TCK (in), 101 TMS (in), 102 TDI (in), 103 TDO (hiz), 104 TRST (in), 105 HVDD4 (power), 106 VSS (power), 119 HVDD4 (power), 120 VSS (power), 121 TESTEN (in), 122 CNF8 (in), 123 CNF7 (in), 124 CNF6 (in), 125 CNF5 (in), 126 CNF4 (in), 127 CNF3 (in), 128 CNF2 (in), 129 CNF1 (in), 130 CNF0 (in), 131 COREVDD (power), 132 HVDD5 (power), 133 VSS (power), 138 HVDD5 (power), 139 VSS (power), 150 HVDD5 (power), 151 VSS (power), 156 COREVDD (power), 157 COREVDD (power), 162 HVDD5 (power), 163 VSS (power), 168 HVDD5 (power), 169 VSS (power), 174 HVDD5 (power), 175 VSS (power), 184 VSS (power), 196 HVDD1 (power), 197 VSS (power), 208 COREVDD (power)

## SA555D
designator DA?
General purpose single bipolar timers
footprint SOIC8 JEDEC
pins: 1 GND, 2 TRIG, 3 OUT, 4 ~{RESET}, 5 CONT, 6 THRES, 7 DISCH, 8 VCC

## SDMX-04_X
designator SB?
Value: *
footprint SDMX_04_X
pins: 1 S3_1, 2 S3_2, 3 S1_1, 4 S2_1, 5 S4_1, 6 S4_2, 7 S2_2, 8 S1_2

## SHEETIN
designator ?  (value not drawn)
SHEETIN; Value: *
pins: 0

## SHEETINOUT
designator ?  (value not drawn)
SHEETINOUT; Value: *
pins: 0

## SHEETOUT
designator ?  (value not drawn)
SHEETOUT; Value: *
pins: 0

## Si8421AB
designator DD?
LOW-POWER SINGLE AND DUAL-CHANNEL DIGITAL ISOLATORS
footprint SOIC8 JEDEC
pins: 1 VDD1, 2 A1, 3 A2, 4 GND1, 5 GND2, 6 B2, 7 B1, 8 VDD2

## Si8460BA-B-IS1
designator DD?
LOW POWER SIX-CHANNEL DIGITAL ISOLATOR
footprint SOIC16
pins: 1 VDD1 (power), 2 A1 (in), 3 A2 (in), 4 A3 (in), 5 A4 (in), 6 A5 (out), 7 A6 (out), 8 GND1 (power), 9 GND2 (power), 10 B6 (in), 11 B5 (in), 12 B4 (out), 13 B3 (out), 14 B2 (out), 15 B1 (out), 16 VDD2 (power)

## Si8461BA-B-IS1
designator DD?
LOW POWER SIX-CHANNEL DIGITAL ISOLATOR
footprint SOIC16
pins: 1 VDD1 (power), 2 A1 (in), 3 A2 (in), 4 A3 (in), 5 A4 (in), 6 A5 (out), 7 A6 (out), 8 GND1 (power), 9 GND2 (power), 10 B6 (in), 11 B5 (in), 12 B4 (out), 13 B3 (out), 14 B2 (out), 15 B1 (out), 16 VDD2 (power)

## Si8462AA-B-IS1
designator DD?
LOW POWER SIX-CHANNEL DIGITAL ISOLATOR
footprint SOIC16
pins: 1 VDD1 (power), 2 A1 (in), 3 A2 (in), 4 A3 (in), 5 A4 (in), 6 A5 (out), 7 A6 (out), 8 GND1 (power), 9 GND2 (power), 10 B6 (in), 11 B5 (in), 12 B4 (out), 13 B3 (out), 14 B2 (out), 15 B1 (out), 16 VDD2 (power)

## Si8463BA-B-IS1
designator DD?
LOW POWER SIX-CHANNEL DIGITAL ISOLATOR
footprint SOIC16
pins: 1 VDD1 (power), 2 A1 (in), 3 A2 (in), 4 A3 (in), 5 A4 (in), 6 A5 (out), 7 A6 (out), 8 GND1 (power), 9 GND2 (power), 10 B6 (in), 11 B5 (in), 12 B4 (out), 13 B3 (out), 14 B2 (out), 15 B1 (out), 16 VDD2 (power)

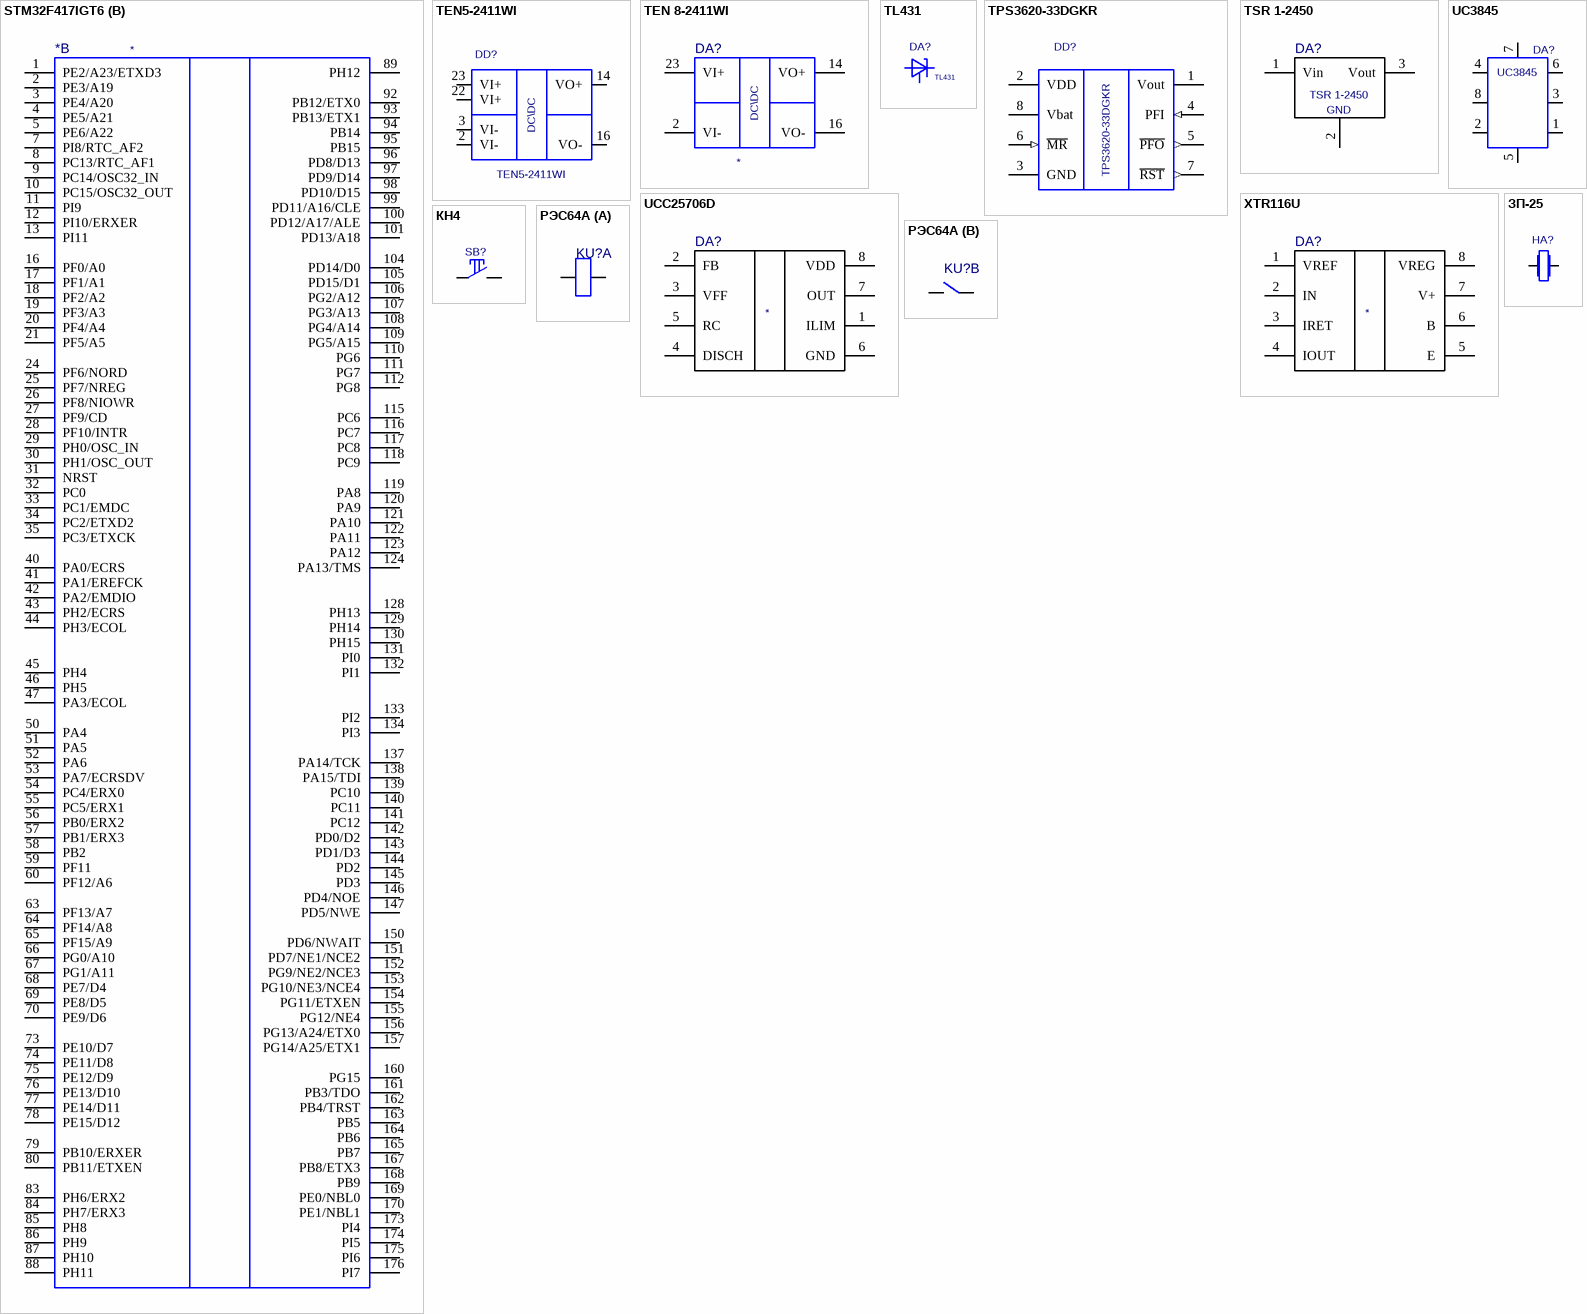
[diagram p4: symbols STM32F417IGT6 to РЭС64А]

## STM32F417IGT6
designator *
ARM Cortex-M4 32b MCU+FPU, 210DMIPS, up to 1MB Flash/192+4KB RAM, crypto, USB OTG HS/FS, Ethernet, 17 TIMs, 3 ADCs, 15 comm. interfaces & camera
footprint LQFP176
part A pins: 6 VBAT, 14 VSS, 15 VDD, 22 VSS, 23 VDD, 36 VDD, 37 VSSA, 38 VREF+, 39 VDDA, 48 VSS, 49 VDD, 61 VSS, 62 VDD, 71 VSS, 72 VDD, 81 VCAP, 82 VDD, 90 VSS, 91 VDD, 102 VSS, 103 VDD, 113 VSS, 114 VDD, 125 VCAP, 126 VSS, 127 VDD, 135 VSS, 136 VDD, 148 VSS, 149 VDD, 158 VSS, 159 VDD, 166 BOOT0, 171 VSS, 172 VDD
part B pins: 1 PE2/A23/ETXD3, 2 PE3/A19, 3 PE4/A20, 4 PE5/A21, 5 PE6/A22, 7 PI8/RTC_AF2, 8 PC13/RTC_AF1, 9 PC14/OSC32_IN, 10 PC15/OSC32_OUT, 11 PI9, 12 PI10/ERXER, 13 PI11, 16 PF0/A0, 17 PF1/A1, 18 PF2/A2, 19 PF3/A3, 20 PF4/A4, 21 PF5/A5, 24 PF6/NORD, 25 PF7/NREG, 26 PF8/NIOWR, 27 PF9/CD, 28 PF10/INTR, 29 PH0/OSC_IN, 30 PH1/OSC_OUT, 31 NRST, 32 PC0, 33 PC1/EMDC, 34 PC2/ETXD2, 35 PC3/ETXCK, 40 PA0/ECRS, 41 PA1/EREFCK, 42 PA2/EMDIO, 43 PH2/ECRS, 44 PH3/ECOL, 45 PH4, 46 PH5, 47 PA3/ECOL, 50 PA4, 51 PA5, 52 PA6, 53 PA7/ECRSDV, 54 PC4/ERX0, 55 PC5/ERX1, 56 PB0/ERX2, 57 PB1/ERX3, 58 PB2, 59 PF11, 60 PF12/A6, 63 PF13/A7, 64 PF14/A8, 65 PF15/A9, 66 PG0/A10, 67 PG1/A11, 68 PE7/D4, 69 PE8/D5, 70 PE9/D6, 73 PE10/D7, 74 PE11/D8, 75 PE12/D9, 76 PE13/D10, 77 PE14/D11, 78 PE15/D12, 79 PB10/ERXER, 80 PB11/ETXEN, 83 PH6/ERX2, 84 PH7/ERX3, 85 PH8, 86 PH9, 87 PH10, 88 PH11, 89 PH12, 92 PB12/ETX0, 93 PB13/ETX1, 94 PB14, 95 PB15, 96 PD8/D13, 97 PD9/D14, 98 PD10/D15, 99 PD11/A16/CLE, 100 PD12/A17/ALE, 101 PD13/A18, 104 PD14/D0, 105 PD15/D1, 106 PG2/A12, 107 PG3/A13, 108 PG4/A14, 109 PG5/A15, 110 PG6, 111 PG7, 112 PG8, 115 PC6, 116 PC7, 117 PC8, 118 PC9, 119 PA8, 120 PA9, 121 PA10, 122 PA11, 123 PA12, 124 PA13/TMS, 128 PH13, 129 PH14, 130 PH15, 131 PI0, 132 PI1, 133 PI2, 134 PI3, 137 PA14/TCK, 138 PA15/TDI, 139 PC10, 140 PC11, 141 PC12, 142 PD0/D2, 143 PD1/D3, 144 PD2, 145 PD3, 146 PD4/NOE, 147 PD5/NWE, 150 PD6/NWAIT, 151 PD7/NE1/NCE2, 152 PG9/NE2/NCE3, 153 PG10/NE3/NCE4, 154 PG11/ETXEN, 155 PG12/NE4, 156 PG13/A24/ETX0, 157 PG14/A25/ETX1, 160 PG15, 161 PB3/TDO, 162 PB4/TRST, 163 PB5, 164 PB6, 165 PB7, 167 PB8/ETX3, 168 PB9, 169 PE0/NBL0, 170 PE1/NBL1, 173 PI4, 174 PI5, 175 PI6, 176 PI7

## TEN5-2411WI
designator DD?
DC-DC, Input 9-36V, Output 5V/1A; Value: *
footprint TEN5-2411WI_TEN5-2411WI(Primary)
pins: 2 VI-, 3 VI-, 9 hidden, 11 hidden, 14 VO+, 16 VO-, 22 VI+, 23 VI+
text: DC\DC

## TEN 8-2411WI
designator DA?
DC-DC, Input 9-36V, Output 5V/1.6A; Value: *
footprint DC-DC DIP24_AM5TW-2405SZ(Primary)
pins: 2 VI-, 14 VO+, 16 VO-, 23 VI+
text: DC\DC

## TL431
designator DA?
Precision Programmable Reference; Value: *
footprint KT26-1_TL431(KT26-1-1)
footprint KT26-1_TL431(Primary)
pins: A, G, K

## TPS3620-33DGKR
designator DD?
BACKUP-BATTERY SUPERVISORS FOR RAM RETENTION; Value: *
footprint MSOP8
pins: 1 Vout (power), 2 VDD (power), 3 GND (power), 4 PFI (in), 5 ~{PFO} (out), 6 ~{MR} (in), 7 ~{RST} (out), 8 Vbat (power)

## TSR 1-2450
designator DA?
DC/DC Step-Down Converter, Input 6.5-36V, Output 5V/1A
footprint DC-DC SIP3
pins: 1 Vin, 2, 3 Vout
text: GND

## UC3845
designator DA?
High Performance Current Mode Controllers; Value: *
footprint DIP8
pins: 1, 2, 3, 4, 5, 6, 7, 8

## UCC25706D
designator DA?
HIGH-SPEED VOLTAGE MODE PULSE WIDTH MODULATOR
footprint SOIC8 JEDEC
pins: 1 ILIM, 2 FB, 3 VFF, 4 DISCH, 5 RC, 6 GND, 7 OUT, 8 VDD

## XTR116U
designator DA?
4-20mA CURRENT LOOP TRANSMITTERS
footprint SOIC8 JEDEC
pins: 1 VREF, 2 IN, 3 IRET, 4 IOUT, 5 E, 6 B, 7 V+, 8 VREG

## ЗП-25
designator HA?  (value not drawn)
ЗП-25; Value: *
footprint ZP3
pins: 1, 2

## КН4
designator SB?  (value not drawn)
КН4; Value: *
footprint КН4_PAT
pins: 1, 2 hidden, 3, 4 hidden

## РЭС64А
designator KU?  (value not drawn)
РЭС64А; Value: *
footprint РЭС64А
part A pins: А, Б
part B pins: 2, 3